# Altium footprint library 分立器件.PcbLib: 102 footprints (part 1 of 7)
Each footprint in its own frame and in the unit in brackets; x right, y up, seen from the top. Pads: shape width x height; smd on the part's side, far side on the other; paste and mask are expansions set on the pad; w line width, h text height; cw(c..) or ccw(c..) is an arc to the next point about the centre after c.
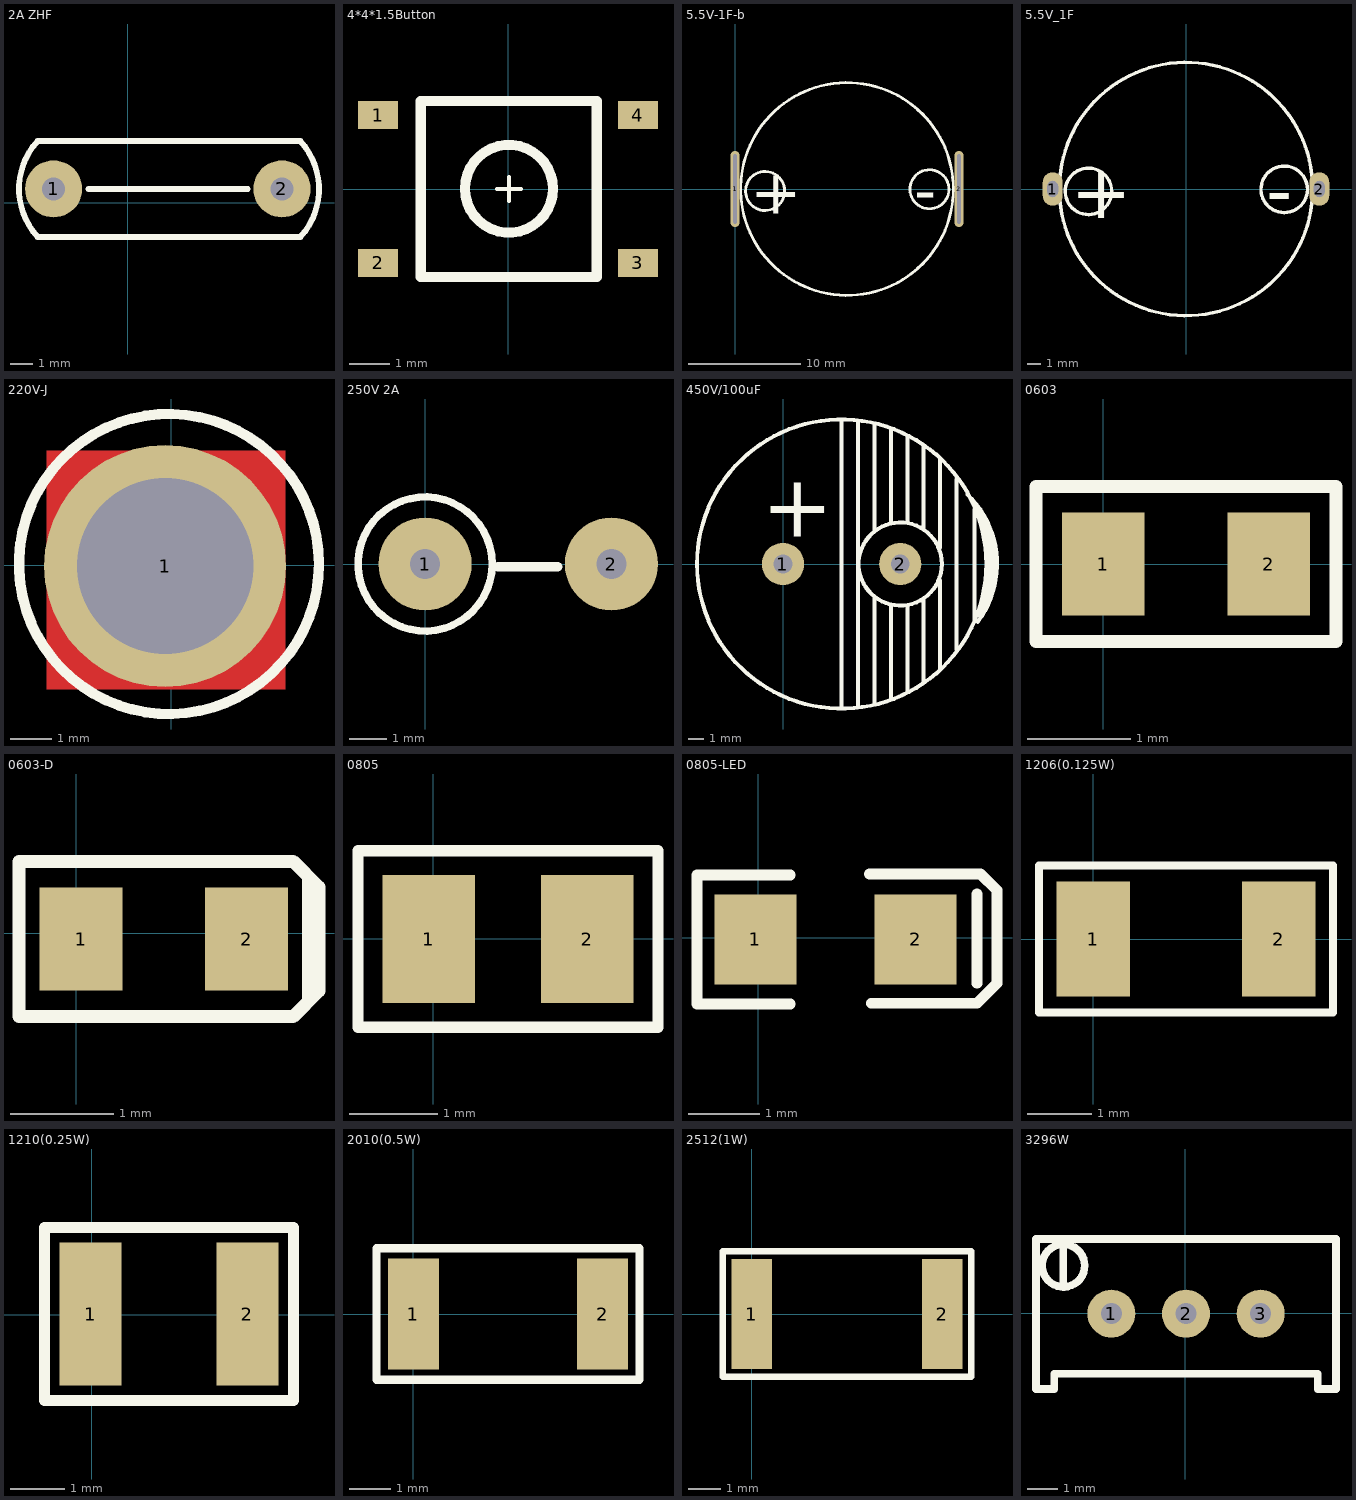
[diagram p0: the footprints below, top view; thin cyan lines are the x and y axes]

## 2A ZHF [mm]
pads (2):
  round 2.5 hole 1: 1(-3.237,0.61) 2(6.763,0.61)
Top Overlay:
  lines w0.254: -1.702,0.61 5.264,0.61 ; 7.544,2.71 -3.937,2.71 ccw(c-1.637,0.61) -3.937,-1.49 7.569,-1.49 ; 7.569,-1.499 ccw(c5.269,0.601) 7.569,2.701

## 4*4*1.5Button [mm]
pads (4):
  rect 1x0.7 smd: 1(-3.25,1.85) 2(-3.25,-1.85) 3(3.25,-1.85) 4(3.25,1.85)
Top Overlay:
  circle w0.254: c0.024,0.006 r1.1
  lines w0.1: -0.28,-0.003 0.32,-0.003 ; 0.02,-0.303 0.02,0.297
  lines w0.254: -2.183,-2.204 -2.183,2.196 2.217,2.196 2.217,-2.204 -2.183,-2.204

## 5.5V-1F-b [mm]
pads (2):
  oval 0.8x6.8 hole 0.3 slot 6.2 at 90 deg: 1(0,0) 2(20,0)
Top Overlay:
  circle w0.254: c10,0 r9.5
  lines w0.254: 1.415,1.016 ccw(c2.685,-0.178) 1.491,1.092 ; 16.096,1.168 ccw(c17.366,-0.025) 16.172,1.245
  text "+" at 1.339,-2.21 h4
  text "-" at 16.02,-2.057 h4

## 5.5V_1F [mm]
height 5.5
pads (2):
  oval 1.5x2.5 hole 0.8 slot 1.2 at 90 deg: 1(-10,0) 2(10,0)
Top Overlay:
  circle w0.254: c0,0 r9.5
  lines w0.254: -8.585,1.016 ccw(c-7.315,-0.178) -8.509,1.092 ; 6.096,1.168 ccw(c7.366,-0.025) 6.172,1.245
  text "+" at -8.661,-2.21 h4
  text "-" at 6.02,-2.057 h4

## 220V-J [mm]
pads (1):
  round 5.9 hole 4.3: 1(-0.146,-0.019)
Top Layer:
  rectangle: -3.035,-3.029 2.789,2.794
Top Overlay:
  circle w0.254: c-0.053,0.031 r3.657

## 250V 2A [mm]
pads (2):
  round 2.5 hole 0.8: 1(0,0) 2(5,0)
Top Overlay:
  circle w0.2: c0,0 r1.8
  lines w0.254: 1.956,-0.076 3.556,-0.076

## 450V/100uF [mm]
pads (2):
  round 2.7 hole 1.2: 1(-0.016,0) 2(7.484,0)
Top Overlay:
  circle w0.254: c3.734,0 r9.25
  circle w0.254: c7.484,0 r2.658
  lines w0.254: 3.734,-9.25 3.734,9.25 ; 4.784,-9.15 4.784,9.1 ; 5.834,-8.95 5.834,-2.1 ; 5.834,2.1 5.834,8.95 ; 6.884,-8.65 6.884,-2.6 ; 6.884,2.6 6.884,8.65 ; 7.934,-8.15 7.934,-2.7 ; 7.934,2.7 7.934,8.15 ; 8.984,-7.55 8.984,-2.3 ; 8.984,2.3 8.984,7.55 ; 10.034,-6.75 10.034,-1.05 ; 10.034,1.05 10.034,6.75 ; 11.084,-5.45 11.084,5.4 ; 11.784,4.45 cw(c7.484,0) 12.441,-3.704 ; 12.234,-3.55 12.234,3.5 ; 12.484,3.5 cw(c6.184,0) 12.578,-3.325 ; 12.557,-3.16 ccw(c5.284,0) 12.684,2.85 cw(c7.684,-0.15) 12.576,-3.323
  text "+" at -1.366,1.75 h4

## 0603 [mm]
pads (2):
  rect 0.8x1 smd: 1(0,0) 2(1.6,0)
Top Overlay:
  lines w0.127: -0.65,-0.75 2.25,-0.75 2.25,0.75 -0.65,0.75 -0.65,-0.75

## 0603-D [mm]
pads (2):
  rect 0.8x1 smd: 1(0.047,-0.053) 2(1.647,-0.053)
Top Overlay:
  lines w0.127: 2.247,-0.653 2.247,-0.053 ; 2.247,0.547 2.247,-0.053 ; 2.347,-0.053 2.247,-0.053 ; -0.553,-0.803 -0.553,0.697 2.097,0.697 2.347,0.447 2.347,-0.553 2.097,-0.803 -0.553,-0.803

## 0805 [mm]
pads (2):
  rect 1.05x1.45 smd: 1(-0.052,-0.002) 2(1.748,-0.002)
Top Overlay:
  lines w0.127: -0.852,-1.002 2.548,-1.002 2.548,0.998 -0.852,0.998 -0.852,-1.002

## 0805-LED [mm]
pads (2):
  rect 1.143x1.25 smd: 1(-0.043,-0.024) 2(2.193,-0.024)
Top Overlay:
  lines w0.15: 0.445,-0.924 -0.855,-0.924 -0.855,0.876 0.445,0.876 ; 1.549,0.889 3.099,0.889 3.327,0.66 3.327,-0.635 3.048,-0.914 1.575,-0.914 ; 3.048,-0.635 3.048,0.61

## 1206(0.125W) [mm]
pads (2):
  rect 1.15x1.8 smd: 1(0,0) 2(2.9,0)
Top Overlay:
  lines w0.127: -0.85,-1.15 3.75,-1.15 3.75,1.15 -0.85,1.15 -0.85,-1.15

## 1210(0.25W) [mm]
pads (2):
  rect 1.15x2.65 smd: 1(-0.021,0.018) 2(2.879,0.018)
Top Overlay:
  lines w0.203: -0.871,-1.582 3.729,-1.582 3.729,1.618 -0.871,1.618 -0.871,-1.582

## 2010(0.5W) [mm]
pads (2):
  rect 1.25x2.7 smd: 1(0,0) 2(4.6,0)
Top Overlay:
  lines w0.203: -0.9,-1.6 -0.9,1.6 5.5,1.6 5.5,-1.6 -0.9,-1.6

## 2512(1W) [mm]
pads (2):
  rect 1.25x3.4 smd: 1(0,0) 2(5.9,0)
Top Overlay:
  lines w0.203: -0.9,-1.95 -0.9,1.95 6.8,1.95 6.8,-1.95 -0.9,-1.95

## 3296W [mm]
pads (3):
  round 1.6 hole 0.7: 1(-2.472,-0.019) 2(0.017,-0.019) 3(2.506,-0.019)
Top Overlay:
  circle w0.254: c-4.073,1.581 r0.711
  lines w0.254: -4.073,0.87 -4.073,2.267 ; -4.987,-2.534 -4.987,2.47 5.021,2.47 5.021,-2.534 4.411,-2.534 4.411,-2.026 -4.377,-2.026 -4.377,-2.534 -4.987,-2.534